# Altium schematic symbol library SCH - POWER - SWITCHMODE - TI TPS62080_DSG_8.SchLib: 1 symbol
Pins are listed as number, name and electrical type; pins without a type are passive.

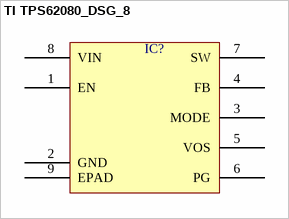
[diagram p0: symbol TI TPS62080_DSG_8]

## TI TPS62080_DSG_8
designator IC?  (value not drawn)
pins: 1 EN, 2 GND, 3 MODE, 4 FB, 5 VOS, 6 PG, 7 SW, 8 VIN, 9 EPAD